# Altium schematic symbol library LTC4357CMS8#PBF.SchLib: 1 symbol
Pins are listed as number, name and electrical type; pins without a type are passive.

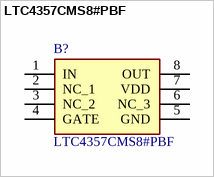
[diagram p0: symbol LTC4357CMS8#PBF]

## LTC4357CMS8#PBF
designator B?
Hot Swap Controller 1-CH 80V N-Channel Positive High Voltage Automotive 8-Pin MSOP Tube; Manufacturer_Name: Analog Devices; Geometry.Height: 1.1mm; Mouser Part Number: 584-LTC4357CMS8#PBF; Mouser Price/Stock: https://www.mouser.co.uk/ProductDetail/Analog-Devices/LTC4357CMS8PBF?qs=hVkxg5c3xu%252BQOMvU8ilEog%3D%3D; Manufacturer_Part_Number: LTC4357CMS8#PBF; Datasheet Link: https://www.arrow.com/en/products/ltc4357cms8pbf/analog-devices
footprint SOP65P490X110-8N
pins: 1 IN, 2 NC_1, 3 NC_2, 4 GATE, 5 GND, 6 NC_3, 7 VDD, 8 OUT